# EAGLE library part LTC3713 (library PowerProducts)
Low Input Voltage, High Power, No RSENSE Synchronous Buck DC/DC Controller
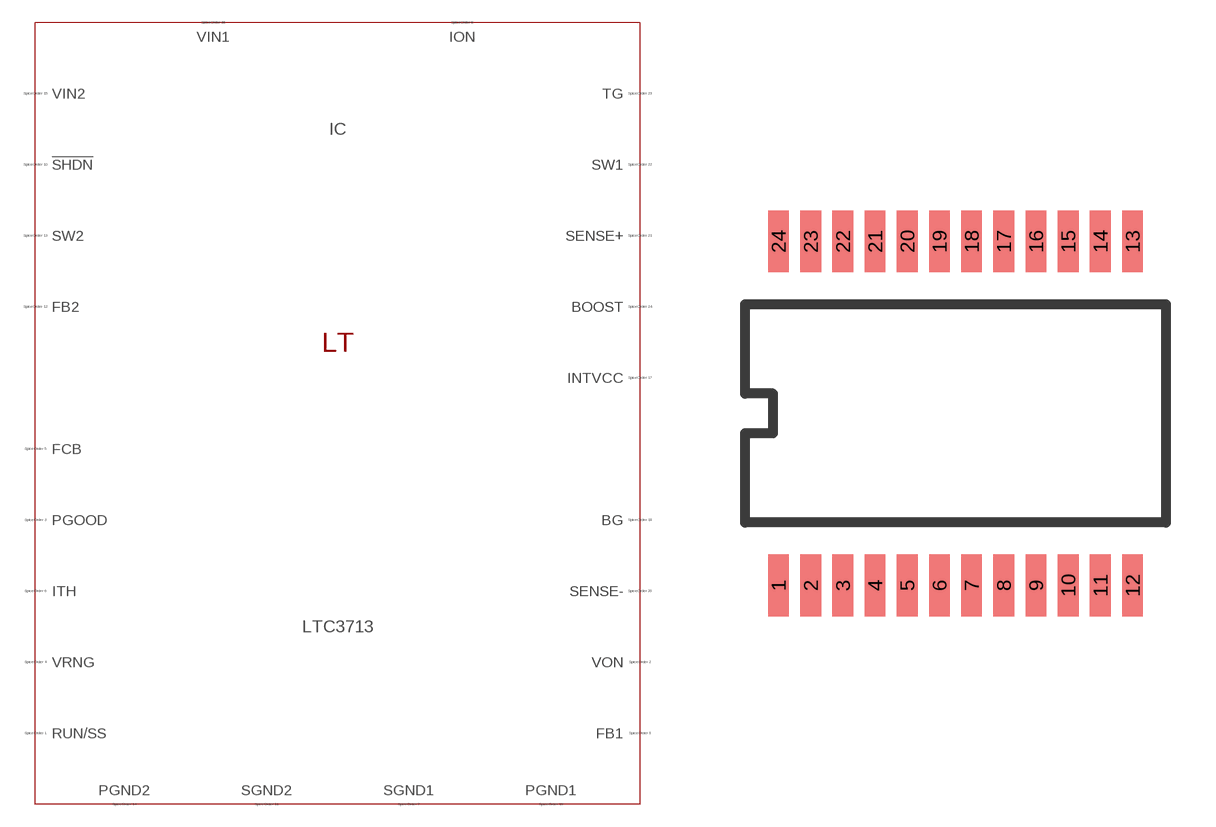
[diagram p290: symbol with the pads of SSOP24(G); footprint SSOP24(G)]

Designator prefix IC

## LTC3713 (SPICEMODEL: LTC3713.sub; SPICEPREFIX: X; VALUE2: LTC3713)  [SSOP24(G)]
1  RUN/SS  pas
2  VON  pas
3  PGOOD  pas
4  VRNG  pas
5  FCB  pas
6  ITH  pas
7  SGND1  pas
8  ION  pas
9  FB1  pas
10  !SHDN  pas
11  SGND2  pas
12  FB2  pas
13  SW2  pas
14  PGND2  pas
15  VIN2  pas
16  VIN1  pas
17  INTVCC  pas
18  BG  pas
19  PGND1  pas
20  SENSE-  pas
21  SENSE+  pas
22  SW1  pas
23  TG  pas
24  BOOST  pas

## Footprint SSOP24(G) (pad centres in mm)
Package generated from: SSOP24(G).asc (!PADS-POWERPCB-V5.0-BASIC! DESIGN DATABASE ASCII FILE 1.0) with :import-pads-powerpcb-v5.ulp Version 1.0.1 at 04.10.2012 14:11:39
smd 0.63 x 1.875: 1 -5.362,-5.213; 2 -4.388,-5.213; 3 -3.413,-5.213; 4 -2.438,-5.213; 5 -1.462,-5.213; 6 -0.487,-5.213; 7 0.487,-5.213; 8 1.462,-5.213; 9 2.438,-5.213; 10 3.413,-5.213; 11 4.388,-5.213; 12 5.362,-5.213; 13 5.362,5.213; 14 4.388,5.213; 15 3.413,5.213; 16 2.438,5.213; 17 1.462,5.213; 18 0.487,5.213; 19 -0.487,5.213; 20 -1.462,5.213; 21 -2.438,5.213; 22 -3.413,5.213; 23 -4.388,5.213; 24 -5.362,5.213